# Altium integrated library VJ0603V393MXJCW1BC.IntLib: 1 symbol
Pins are listed as number, name and electrical type; pins without a type are passive.

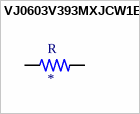
[diagram p0: symbol VJ0603V393MXJCW1BC]

## VJ0603V393MXJCW1BC
designator R
CAP CER 0.039UF 16V Y5V 0603; MF: Vishay; MP: VJ0603V393MXJCW1BC; SnapEDA_Link: https://www.snapeda.com/parts/VJ0603V393MXJCW1BC/Vishay/view-part/1949412/?ref=snap; Availability: Unavailable; Price: None; Value: *; Package: 0603 Vishay
footprint RESC1608X55
pins: 1, 2